# Altium schematic symbol library TVS_ESD.SchLib: 4 symbols
Pins are listed as number, name and electrical type; pins without a type are passive.

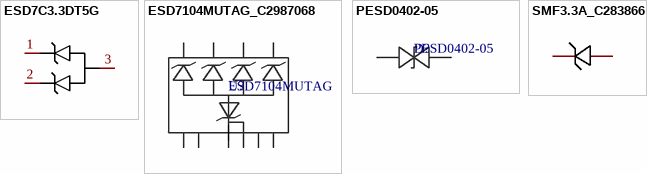
[diagram p0: symbols ESD7C3.3DT5G to SMF3.3A_C283866]

## ESD7C3.3DT5G
designator D??  (value not drawn)
Manufacturer: onsemi(安森美); Add into BOM: yes; Polarity: 单向; Reverse Stand-Off Voltage (Vrwm): 3.3V; Breakdown Voltage (VBR): 5V; Name: ESD7C3.3DT5G; Symbol: ESD7C3.3DT5G; Device: ESD7C3.3DT5G; LCSC Part Name: 单向ESD; Supplier Part: C233386; Manufacturer Part: ESD7C3.3DT5G; Supplier Footprint: SOT-723-3; JLCPCB Part Class: Extended Part; Datasheet: https://atta.szlcsc.com/upload/public/pdf/source/20230915/2891BDCF27609CE91537B924A038180E.pdf; Supplier: LCSC; Convert to PCB: yes
footprint SOT-723_L1.2-W0.8-P0.40-LS1.2-BR
pins: 1, 2, 3

## ESD7104MUTAG_C2987068
designator U?, comment ESD7104MUTAG
反向截止电压(Vrwm):5V;钳位电压:18V;峰值脉冲电流(Ipp):3A@8/20us;峰值脉冲功率(Ppp):60W@8/20us;击穿电压(VBR):7.5V;; Manufacturer: TECH PUBLIC(台舟); SEEX_AUTHOR: ref42; SEEX_COMPONENT_ID: C2987068; Clamping Voltage: 18V; Junction Capacitance: 0.4pF；0.2pF; Number of Channels: 四路; Reverse Leakage Current (Ir): 200nA; Reverse Stand-Off Voltage (Vrwm): 5V; Voltage - Breakdown: 7.5V; level of protection: IEC 61000-4-5；IEC 61000-4-2; SEEX_PROJECT_URL: https://github.com/ref42/seex; Footprint: DFN-10_L2.5-W1.0-P0.50-BL; Datasheet: https://item.szlcsc.com/datasheet/ESD7104MUTAG/3438141.html; JLCPCB Part Class: Extended Part; LCSC Part Name: 5V截止 峰值浪涌电流：3A@8/20us; Manufacturer Part: ESD7104MUTAG; Operating Temperature: -55℃~+125℃; Peak Pulse Current (Ipp): 3A@8/20us; Peak Pulse Power Dissipation (Ppp): 60W@8/20us; Supplier: LCSC; Supplier Footprint: DFN2510-10; Supplier Part: C2987068
footprint DFN-10_L2.5-W1.0-P0.50-BL (DFN-10(1x2.5); DFN-10; DFN2510-10; DFN2510-10L)
pins: 1, 2, 3, 4, 5, 6 NC, 7 NC, 8, 9 NC, 10 NC

## PESD0402-05
designator D?
极性:双向;反向截止电压(Vrwm):5V;钳位电压:40V;峰值脉冲电流(Ipp):-;峰值脉冲功率(Ppp):-;击穿电压(VBR):-;; Manufacturer: R+O(宏嘉诚); SEEX_AUTHOR: ref42; SEEX_COMPONENT_ID: C54560802; Clamping Voltage: 40V; Junction Capacitance: 0.05pF; Number of Channels: 单路; Polarity: 双向; Reverse Leakage Current (Ir): 10nA; Reverse Stand-Off Voltage (Vrwm): 5V; Type: ESD; level of protection: IEC 61000-4-2; SEEX_PROJECT_URL: https://github.com/ref42/seex; Footprint: D0402-BI; Datasheet: https://item.szlcsc.com/datasheet/PESD0402-05/57930246.html; JLCPCB Part Class: Extended Part; LCSC Part Name: 双向超低电容ESD表面贴装聚合物静电抑制器，低漏电流、响应速度快; Manufacturer Part: PESD0402-05; Operating Temperature: -55℃~+125℃; Supplier: LCSC; Supplier Footprint: 0402; Supplier Part: C54560802
footprint D0402-BI (0402; DFN1006; D0402; -; ESD0402; D0402-BI; SMD-2P; DFN1006-2L)
pins: 1, 2

## SMF3.3A_C283866
designator D??  (value not drawn)
Manufacturer: DOWO(东沃); Add into BOM: yes; Reverse Stand-Off Voltage (Vrwm): 3.3V; Maximum Clamping Voltage: 8V; Peak Pulse Current (Ipp)@10/1000us: 25A; Breakdown Voltage: 5.2V; Reverse Leakage Current (Ir): 600uA; Name: SMF3.3A; Symbol: SMF3.3A; Device: SMF3.3A_C283866; LCSC Part Name: SMF3.3A; Supplier Part: C283866; Manufacturer Part: SMF3.3A; Supplier Footprint: SOD-123; JLCPCB Part Class: Extended Part; Datasheet: https://atta.szlcsc.com/upload/public/pdf/source/20180913/C283866_6B3FC7DB82D40F63EC323F6A8CE1774A.pdf; Supplier: LCSC; Convert to PCB: yes
footprint SOD-123_L2.8-W1.8-LS3.7-RD
3D model SOD-123_L2.8-W1.8-LS3.7-RD
footprint SOD-323 (SOD Diode;1.65mm W X 1.24mm L X 1.16mm H body)
footprint SOD-80_L3.5-W1.5-RD
footprint SOD-123_L2.6-W1.6-LS3.5-RD - duplicate
pins: 1, 2